# EAGLE library part IC_DS90CR288A (library akita)
CameraLink receiver
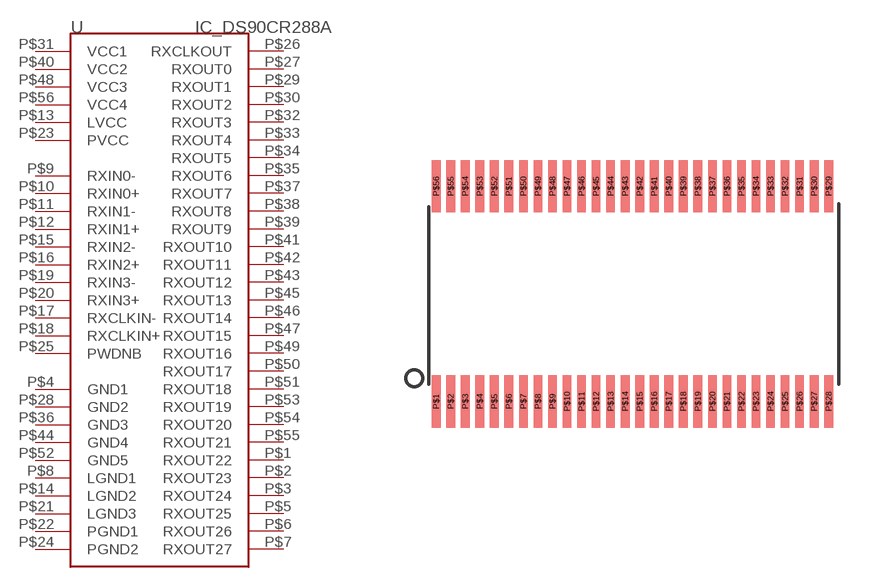
[diagram p114: symbol with the pads of TSSOP56; footprint TSSOP56]

Designator prefix U

## IC_DS90CR288A  [TSSOP56]
P$1  RXOUT22
P$2  RXOUT23
P$3  RXOUT24
P$4  GND1
P$5  RXOUT25
P$6  RXOUT26
P$7  RXOUT27
P$8  LGND1
P$9  RXIN0-
P$10  RXIN0+
P$11  RXIN1-
P$12  RXIN1+
P$13  LVCC
P$14  LGND2
P$15  RXIN2-
P$16  RXIN2+
P$17  RXCLKIN-
P$18  RXCLKIN+
P$19  RXIN3-
P$20  RXIN3+
P$21  LGND3
P$22  PGND1
P$23  PVCC
P$24  PGND2
P$25  PWDNB
P$26  RXCLKOUT
P$27  RXOUT0
P$28  GND2
P$29  RXOUT1
P$30  RXOUT2
P$31  VCC1
P$32  RXOUT3
P$33  RXOUT4
P$34  RXOUT5
P$35  RXOUT6
P$36  GND3
P$37  RXOUT7
P$38  RXOUT8
P$39  RXOUT9
P$40  VCC2
P$41  RXOUT10
P$42  RXOUT11
P$43  RXOUT12
P$44  GND4
P$45  RXOUT13
P$46  RXOUT14
P$47  RXOUT15
P$48  VCC3
P$49  RXOUT16
P$50  RXOUT17
P$51  RXOUT18
P$52  GND5
P$53  RXOUT19
P$54  RXOUT20
P$55  RXOUT21
P$56  VCC4

## Footprint TSSOP56 (pad centres in mm)
smd 0.3 x 1.8: P$1 -6.75,-3.7; P$2 -6.25,-3.7; P$3 -5.75,-3.7; P$4 -5.25,-3.7; P$5 -4.75,-3.7; P$6 -4.25,-3.7; P$7 -3.75,-3.7; P$8 -3.25,-3.7; P$9 -2.75,-3.7; P$10 -2.25,-3.7; P$11 -1.75,-3.7; P$12 -1.25,-3.7; P$13 -0.75,-3.7; P$14 -0.25,-3.7; P$15 0.25,-3.7; P$16 0.75,-3.7; P$17 1.25,-3.7; P$18 1.75,-3.7; P$19 2.25,-3.7; P$20 2.75,-3.7; P$21 3.25,-3.7; P$22 3.75,-3.7; P$23 4.25,-3.7; P$24 4.75,-3.7; P$25 5.25,-3.7; P$26 5.75,-3.7; P$27 6.25,-3.7; P$28 6.75,-3.7; P$29 6.75,3.7; P$30 6.25,3.7; P$31 5.75,3.7; P$32 5.25,3.7; P$33 4.75,3.7; P$34 4.25,3.7; P$35 3.75,3.7; P$36 3.25,3.7; P$37 2.75,3.7; P$38 2.25,3.7; P$39 1.75,3.7; P$40 1.25,3.7; P$41 0.75,3.7; P$42 0.25,3.7; P$43 -0.25,3.7; P$44 -0.75,3.7; P$45 -1.25,3.7; P$46 -1.75,3.7; P$47 -2.25,3.7; P$48 -2.75,3.7; P$49 -3.25,3.7; P$50 -3.75,3.7; P$51 -4.25,3.7; P$52 -4.75,3.7; P$53 -5.25,3.7; P$54 -5.75,3.7; P$55 -6.25,3.7; P$56 -6.75,3.7